# EAGLE library part 10X1PCBBLOCK (library Shell2013 (1))
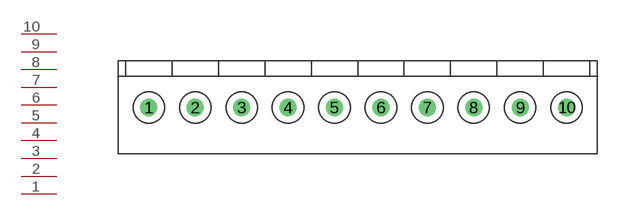
[diagram p14: symbol with the pads of 10X1PCBBLOCK; footprint 10X1PCBBLOCK]

Designator prefix -; gates G$1=1XCONNECTOR G$2=1XCONNECTOR G$3=1XCONNECTOR G$4=1XCONNECTOR G$5=1XCONNECTOR G$6=1XCONNECTOR G$7=1XCONNECTOR G$8=1XCONNECTOR G$9=1XCONNECTOR G$10=1XCONNECTOR

## 10X1PCBBLOCK  [10X1PCBBLOCK]
1  G$1:P$1
2  G$2:P$1
3  G$3:P$1
4  G$4:P$1
5  G$5:P$1
6  G$6:P$1
7  G$7:P$1
8  G$8:P$1
9  G$9:P$1
10  G$10:P$1

## Footprint 10X1PCBBLOCK (pad centres in mm)
drill 0.8: 1 -15.75,0; 2 -12.25,0; 3 -8.75,0; 4 -5.25,0; 5 -1.75,0; 6 1.75,0; 7 5.25,0; 8 8.75,0; 9 12.25,0; 10 15.75,0